# EAGLE library part MPU6050 (library ExerciseTracker)
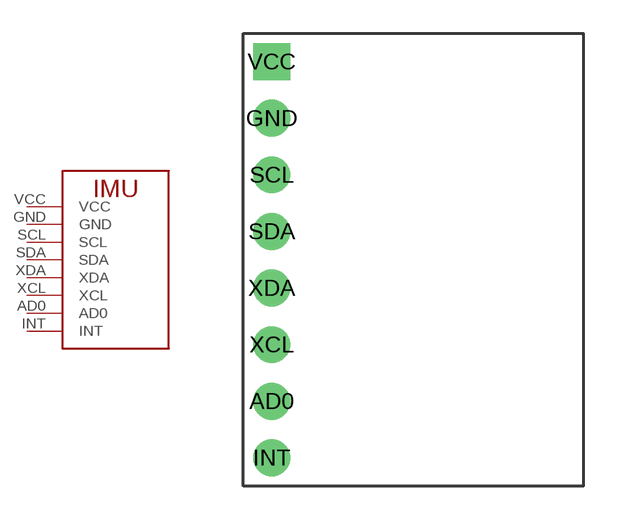
[diagram p3: symbol with the pads of MPU6050; footprint MPU6050]

Designator prefix -

## MPU6050  [MPU6050]
AD0  AD0
GND  GND
INT  INT
SCL  SCL
SDA  SDA
VCC  VCC
XCL  XCL
XDA  XDA

## Footprint MPU6050 (pad centres in mm)
drill 0.889 pad 1.651: AD0 0,0; GND 0,12.7; INT 0,-2.54; SCL 0,10.16; SDA 0,7.62; XCL 0,2.54; XDA 0,5.08
drill 0.889 pad 1.651 square: VCC 0,15.24